# EAGLE library part AXR30545 (library con-panasonic)
AXR30545 Plug (Board mounting type) B type Source: http://www.panasonic-electric-works.ch/home/www/catalogues/connector/download/en_ds_65201_0000.pdf
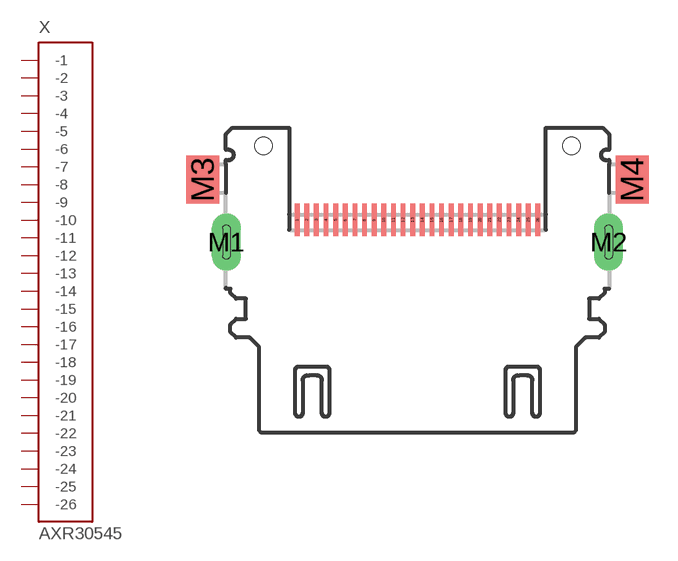
[diagram p0: symbol with the pads of AXR30545; footprint AXR30545]

Designator prefix X

## AXR30545  [AXR30545]
1  -1  in
2  -2  in
3  -3  in
4  -4  in
5  -5  in
6  -6  in
7  -7  in
8  -8  in
9  -9  in
10  -10  in
11  -11  in
12  -12  in
13  -13  in
14  -14  in
15  -15  in
16  -16  in
17  -17  in
18  -18  in
19  -19  in
20  -20  in
21  -21  in
22  -22  in
23  -23  in
24  -24  in
25  -25  in
26  -26  in

## Footprint AXR30545 (pad centres in mm)
AXR30545 Connector Source: http://www.panasonic-electric-works.ch/home/www/catalogues/connector/download/en_ds_65201_0000.pdf
smd 0.25 x 1.7: 1 -6.25,1.15; 2 -5.75,1.15; 3 -5.25,1.15; 4 -4.75,1.15; 5 -4.25,1.15; 6 -3.75,1.15; 7 -3.25,1.15; 8 -2.75,1.15; 9 -2.25,1.15; 10 -1.75,1.15; 11 -1.25,1.15; 12 -0.75,1.15; 13 -0.25,1.15; 14 0.25,1.15; 15 0.75,1.15; 16 1.25,1.15; 17 1.75,1.15; 18 2.25,1.15; 19 2.75,1.15; 20 3.25,1.15; 21 3.75,1.15; 22 4.25,1.15; 23 4.75,1.15; 24 5.25,1.15; 25 5.75,1.15; 26 6.25,1.15
drill 0.4 pad 1.5 long: M1 -9.925,0; M2 9.925,0
smd 1.7 x 2.5: M3 -11.15,3.25; M4 11.15,3.25
hole 0.9 at -8,5
hole 0.9 at 8,5